# Altium schematic symbol library Avalon.SchLib: 1 symbol
Pins are listed as number, name and electrical type; pins without a type are passive.

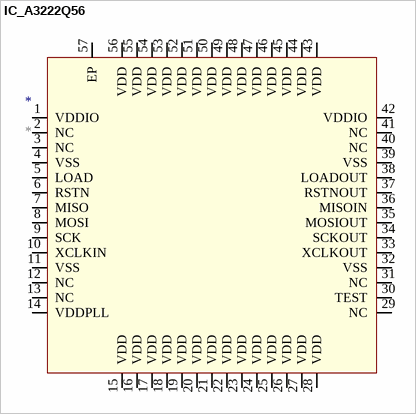
[diagram p0: symbol IC_A3222Q56]

## IC_A3222Q56
designator *
footprint SMD_QFN50P800X800X80-57N
pins: 1 VDDIO, 2 NC, 3 NC, 4 VSS, 5 LOAD, 6 RSTN, 7 MISO, 8 MOSI, 9 SCK, 10 XCLKIN, 11 VSS, 12 NC, 13 NC, 14 VDDPLL, 15 VDD, 16 VDD, 17 VDD, 18 VDD, 19 VDD, 20 VDD, 21 VDD, 22 VDD, 23 VDD, 24 VDD, 25 VDD, 26 VDD, 27 VDD, 28 VDD, 29 NC, 30 TEST, 31 NC, 32 VSS, 33 XCLKOUT, 34 SCKOUT, 35 MOSIOUT, 36 MISOIN, 37 RSTNOUT, 38 LOADOUT, 39 VSS, 40 NC, 41 NC, 42 VDDIO, 43 VDD, 44 VDD, 45 VDD, 46 VDD, 47 VDD, 48 VDD, 49 VDD, 50 VDD, 51 VDD, 52 VDD, 53 VDD, 54 VDD, 55 VDD, 56 VDD, 57 EP